# Altium schematic symbol library Con_RF.Schlib: 1 symbol
Pins are listed as number, name and electrical type; pins without a type are passive.

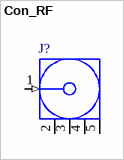
[diagram p0: symbol Con_RF]

## Con_RF
designator J?
RF Coaxial PCB Connector
pins: 1 Signal (in) "Signal Pin", 2 GND (power), 3 GND (power), 4 GND (power), 5 GND (power)
1 alternate drawing of the same symbol